# EAGLE library part MC33161DG (library ON Semiconductor_By_element14_Batch_1)
Universal Voltage Monitors
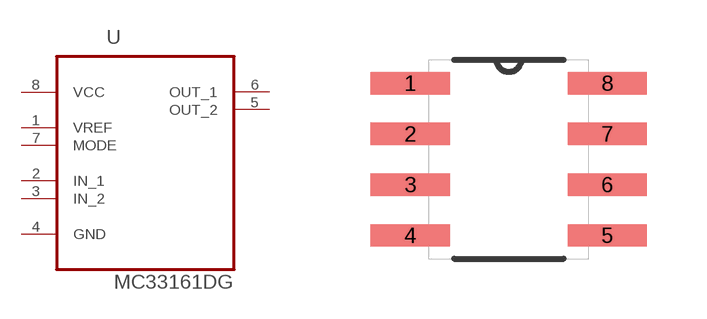
[diagram p351: symbol with the pads of SOIC127P600X175-8N; footprint SOIC127P600X175-8N]

Designator prefix U

## MC33161DG (MPN: MC33161DG; OC_FARNELL: 1192059; OC_NEWARK: 98H0679; P1I: o; PACKAGE: SOIC-8; SUPPLIER: ON Semiconductor)  [SOIC127P600X175-8N]
1  VREF  pas
2  IN_1  pwr
3  IN_2  pwr
4  GND  pas
5  OUT_2  out
6  OUT_1  out
7  MODE  in
8  VCC  pwr

## Footprint SOIC127P600X175-8N (pad centres in mm)
smd 1.981 x 0.559: 1 -2.464,1.905; 2 -2.464,0.635; 3 -2.464,-0.635; 4 -2.464,-1.905; 5 2.464,-1.905; 6 2.464,-0.635; 7 2.464,0.635; 8 2.464,1.905